# Altium footprint library Realtek.PcbLib: 5 footprints
Each footprint in its own frame and in the unit in brackets; x right, y up, seen from the top. Pads: shape width x height; smd on the part's side, far side on the other; paste and mask are expansions set on the pad; w line width, h text height; cw(c..) or ccw(c..) is an arc to the next point about the centre after c.
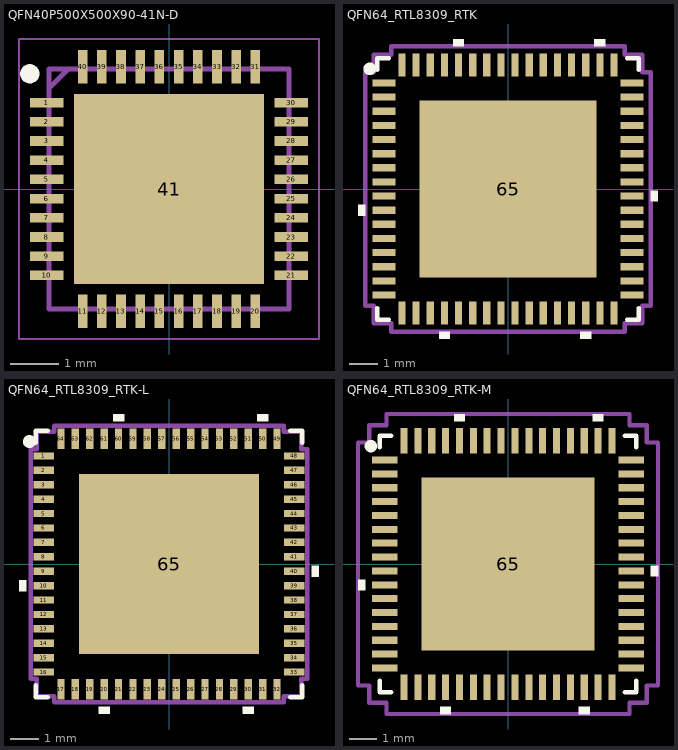
[diagram p0: the footprints below, top view; thin cyan lines are the x and y axes]

## PCBComponent_1 [mil]

## QFN40P500X500X90-41N-D [mm]
pads (41):
  rect 0.7x0.2 smd: 1(-2.55,1.8) 2(-2.55,1.4) 3(-2.55,1) 4(-2.55,0.6) 5(-2.55,0.2) 6(-2.55,-0.2) 7(-2.55,-0.6) 8(-2.55,-1) 9(-2.55,-1.4) 10(-2.55,-1.8) 21(2.55,-1.8) 22(2.55,-1.4) 23(2.55,-1) 24(2.55,-0.6) 25(2.55,-0.2) 26(2.55,0.2) 27(2.55,0.6) 28(2.55,1) 29(2.55,1.4) 30(2.55,1.8)
  rect 0.2x0.7 smd: 11(-1.8,-2.55) 12(-1.4,-2.55) 13(-1,-2.55) 14(-0.6,-2.55) 15(-0.2,-2.55) 16(0.2,-2.55) 17(0.6,-2.55) 18(1,-2.55) 19(1.4,-2.55) 20(1.8,-2.55) 31(1.8,2.55) 32(1.4,2.55) 33(1,2.55) 34(0.6,2.55) 35(0.2,2.55) 36(-0.2,2.55) 37(-0.6,2.55) 38(-1,2.55) 39(-1.4,2.55) 40(-1.8,2.55)
  rect 3.95x3.95 smd: 41(0,0)
Top Overlay:
  circle w0.2: c-2.9,2.4 r0.1
Mechanical 13:
  lines w0.1: -2.5,2.1 -2.1,2.5 ; -2.5,-2.5 -2.5,2.5 2.5,2.5 2.5,-2.5 -2.5,-2.5
Mechanical 15:
  lines w0.05: -3.125,-3.125 -3.125,3.125 3.125,3.125 3.125,-3.125 -3.125,-3.125
3D body "RTL8211F-CG.stp": height 0.9, standoff 0, extent -2.55,-2.55 2.55,2.55

## QFN64_RTL8309_RTK [mil]
pads (65):
  rect 32x10 smd paste+0 mask+0: 1(-173,147.68) 2(-173,127.98) 3(-173,108.3) 4(-173,88.61) 5(-173,68.92) 6(-173,49.23) 7(-173,29.54) 8(-173,9.85) 9(-173,-9.85) 10(-173,-29.54) 11(-173,-49.23) 12(-173,-68.92) 13(-173,-88.61) 14(-173,-108.3) 15(-173,-127.98) 16(-173,-147.68) 33(173,-147.68) 34(173,-127.98) 35(173,-108.3) 36(173,-88.61) 37(173,-68.92) 38(173,-49.23) 39(173,-29.54) 40(173,-9.85) 41(173,9.85) 42(173,29.54) 43(173,49.23) 44(173,68.92) 45(173,88.61) 46(173,108.3) 47(173,127.98) 48(173,147.68)
  rect 10x32 smd paste+0 mask+0: 17(-147.68,-173) 18(-127.98,-173) 19(-108.3,-173) 20(-88.61,-173) 21(-68.92,-173) 22(-49.23,-173) 23(-29.54,-173) 24(-9.85,-173) 25(9.85,-173) 26(29.54,-173) 27(49.23,-173) 28(68.92,-173) 29(88.61,-173) 30(108.3,-173) 31(127.98,-173) 32(147.68,-173) 49(147.68,173) 50(127.98,173) 51(108.3,173) 52(88.61,173) 53(68.92,173) 54(49.23,173) 55(29.54,173) 56(9.85,173) 57(-9.85,173) 58(-29.54,173) 59(-49.23,173) 60(-68.92,173) 61(-88.61,173) 62(-108.3,173) 63(-127.98,173) 64(-147.68,173)
  rect 246x246 smd paste+0 mask+0: 65(0,0)
Top Overlay:
  circle w9.84: c-192.69,167.36 r3.94
  region: -61.41,199 -76.42,199 -76.42,209 -61.41,209
  region: 135.49,199 120.48,199 120.48,209 135.49,209
  region: 199,-2.35 209,-2.35 209,-17.34 199,-17.34
  region: 115.8,-199 100.8,-199 100.8,-209 115.8,-209
  region: -81.11,-199 -96.11,-199 -96.11,-209 -81.11,-209
  region: -199,-22.04 -209,-22.04 -209,-37.03 -199,-37.03
  lines w6: -182,-165.78 -182,-182 -165.78,-182 ; -182,165.78 -182,182 -165.78,182 ; 165.78,-182 182,-182 182,-165.78 ; 165.78,182 182,182 182,165.78
Mechanical 15:
  circle w1.97: c0,0 r13.78
  lines w1.97: -19.68,0 19.68,0 ; 0,-19.68 0,19.68
  lines w6: -199,-162.68 -199,162.68 -187,162.68 -187,187 -162.68,187 -162.68,199 162.68,199 162.68,187 187,187 187,162.68 199,162.68 199,-162.68 187,-162.68 187,-187 162.68,-187 162.68,-199 -162.68,-199 -162.68,-187 -187,-187 -187,-162.68 -199,-162.68
3D body "QFN64_RTL8309_RTK.step": height 35.12, standoff 0, extent -177.01,-177.01 177.01,177.01

## QFN64_RTL8309_RTK-L [mil]
pads (65):
  rect 28x10 smd paste+0 mask+0: 1(-171,147.68) 2(-171,127.98) 3(-171,108.3) 4(-171,88.61) 5(-171,68.92) 6(-171,49.23) 7(-171,29.54) 8(-171,9.85) 9(-171,-9.85) 10(-171,-29.54) 11(-171,-49.23) 12(-171,-68.92) 13(-171,-88.61) 14(-171,-108.3) 15(-171,-127.98) 16(-171,-147.68) 33(171,-147.68) 34(171,-127.98) 35(171,-108.3) 36(171,-88.61) 37(171,-68.92) 38(171,-49.23) 39(171,-29.54) 40(171,-9.85) 41(171,9.85) 42(171,29.54) 43(171,49.23) 44(171,68.92) 45(171,88.61) 46(171,108.3) 47(171,127.98) 48(171,147.68)
  rect 10x28 smd paste+0 mask+0: 17(-147.68,-171) 18(-127.98,-171) 19(-108.3,-171) 20(-88.61,-171) 21(-68.92,-171) 22(-49.23,-171) 23(-29.54,-171) 24(-9.85,-171) 25(9.85,-171) 26(29.54,-171) 27(49.23,-171) 28(68.92,-171) 29(88.61,-171) 30(108.3,-171) 31(127.98,-171) 32(147.68,-171) 49(147.68,171) 50(127.98,171) 51(108.3,171) 52(88.61,171) 53(68.92,171) 54(49.23,171) 55(29.54,171) 56(9.85,171) 57(-9.85,171) 58(-29.54,171) 59(-49.23,171) 60(-68.92,171) 61(-88.61,171) 62(-108.3,171) 63(-127.98,171) 64(-147.68,171)
  rect 246x246 smd paste+0 mask+0: 65(0,0)
Top Overlay:
  circle w9.84: c-190.69,167.36 r3.94
  region: -61.41,195 -76.42,195 -76.42,205 -61.41,205
  region: 135.49,195 120.48,195 120.48,205 135.49,205
  region: 195,-2.35 205,-2.35 205,-17.34 195,-17.34
  region: 115.8,-195 100.8,-195 100.8,-205 115.8,-205
  region: -81.11,-195 -96.11,-195 -96.11,-205 -81.11,-205
  region: -195,-22.04 -205,-22.04 -205,-37.03 -195,-37.03
  lines w6: -182,-165.78 -182,-182 -165.78,-182 ; -182,165.78 -182,182 -165.78,182 ; 165.78,-182 182,-182 182,-165.78 ; 165.78,182 182,182 182,165.78
Mechanical 15:
  circle w1.97: c0,0 r13.78
  lines w1.97: -19.68,0 19.68,0 ; 0,-19.68 0,19.68
  lines w6: -189,-156.68 -189,156.68 -181,156.68 -181,181 -156.68,181 -156.68,189 156.68,189 156.68,181 181,181 181,156.68 189,156.68 189,-156.68 181,-156.68 181,-181 156.68,-181 156.68,-189 -156.68,-189 -156.68,-181 -181,-181 -181,-156.68 -189,-156.68
3D body "QFN64_RTL8309_RTK.step": height 35.12, standoff 0, extent -177.01,-177.01 177.01,177.01

## QFN64_RTL8309_RTK-M [mil]
pads (65):
  rect 36x10 smd paste+0 mask+0: 1(-175,147.68) 2(-175,127.98) 3(-175,108.3) 4(-175,88.61) 5(-175,68.92) 6(-175,49.23) 7(-175,29.54) 8(-175,9.85) 9(-175,-9.85) 10(-175,-29.54) 11(-175,-49.23) 12(-175,-68.92) 13(-175,-88.61) 14(-175,-108.3) 15(-175,-127.98) 16(-175,-147.68) 33(175,-147.68) 34(175,-127.98) 35(175,-108.3) 36(175,-88.61) 37(175,-68.92) 38(175,-49.23) 39(175,-29.54) 40(175,-9.85) 41(175,9.85) 42(175,29.54) 43(175,49.23) 44(175,68.92) 45(175,88.61) 46(175,108.3) 47(175,127.98) 48(175,147.68)
  rect 10x36 smd paste+0 mask+0: 17(-147.68,-175) 18(-127.98,-175) 19(-108.3,-175) 20(-88.61,-175) 21(-68.92,-175) 22(-49.23,-175) 23(-29.54,-175) 24(-9.85,-175) 25(9.85,-175) 26(29.54,-175) 27(49.23,-175) 28(68.92,-175) 29(88.61,-175) 30(108.3,-175) 31(127.98,-175) 32(147.68,-175) 49(147.68,175) 50(127.98,175) 51(108.3,175) 52(88.61,175) 53(68.92,175) 54(49.23,175) 55(29.54,175) 56(9.85,175) 57(-9.85,175) 58(-29.54,175) 59(-49.23,175) 60(-68.92,175) 61(-88.61,175) 62(-108.3,175) 63(-127.98,175) 64(-147.68,175)
  rect 246x246 smd paste+0 mask+0: 65(0,0)
Top Overlay:
  circle w9.84: c-194.69,167.36 r3.94
  region: -203,-22.04 -213,-22.04 -213,-37.03 -203,-37.03
  region: -81.11,-203 -96.11,-203 -96.11,-213 -81.11,-213
  region: 115.8,-203 100.8,-203 100.8,-213 115.8,-213
  region: 203,-2.35 213,-2.35 213,-17.34 203,-17.34
  region: 135.49,203 120.48,203 120.48,213 135.49,213
  region: -61.41,203 -76.42,203 -76.42,213 -61.41,213
  lines w6: -182,-165.78 -182,-182 -165.78,-182 ; -182,165.78 -182,182 -165.78,182 ; 165.78,-182 182,-182 182,-165.78 ; 165.78,182 182,182 182,165.78
Mechanical 15:
  circle w1.97: c0,0 r13.78
  lines w1.97: -19.68,0 19.68,0 ; 0,-19.68 0,19.68
  lines w6: -213,-172.68 -197,-172.68 -197,-197 -172.68,-197 -172.68,-213 172.68,-213 172.68,-197 197,-197 197,-172.68 213,-172.68 213,172.68 197,172.68 197,197 172.68,197 172.68,213 -172.68,213 -172.68,197 -197,197 -197,172.68 -213,172.68 -213,-172.68
3D body "QFN64_RTL8309_RTK.step": height 35.12, standoff 0, extent -177.01,-177.01 177.01,177.01